# EAGLE library part PS4JOYSTICK (library PS4-sequencer)
Thumb Joystick Joystick commonly found in PS2 controllers. Two pots and a select switch. Adapted from Sparkfun Library (but for more common 6mm switch sticks)
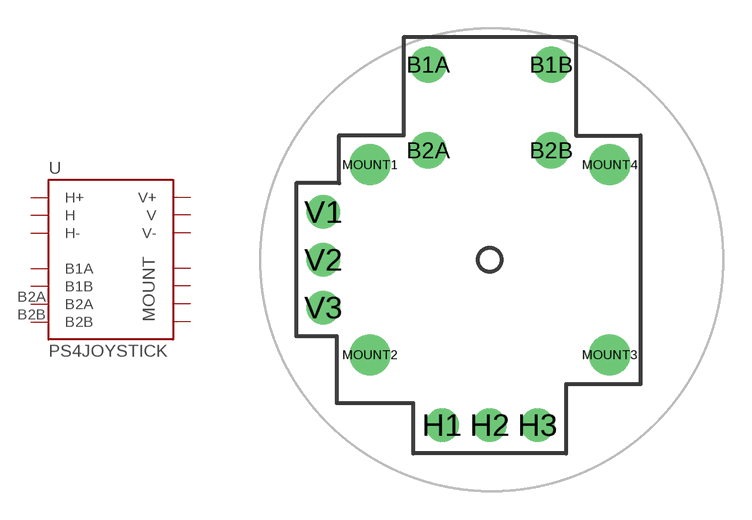
[diagram p1: symbol with the pads of PS4JOYSTICK; footprint PS4JOYSTICK]

Designator prefix U

## PS4JOYSTICKPTH  [PS4JOYSTICK]
B1A  B1A
B1B  B1B
B2A  B2A
B2B  B2B
H1  H+
H2  H
H3  H-
MOUNT1  GND
MOUNT2  GND
MOUNT3  GND
MOUNT4  GND
V1  V+
V2  V
V3  V-

## Footprint PS4JOYSTICK (pad centres in mm)
drill 1.1 pad 1.93: B1A -3.269,10.362; B1B 3.269,10.362; B2A -3.269,5.81; B2B 3.269,5.81
drill 0.889 pad 1.778: H1 -2.54,-8.781; H2 0,-8.781; H3 2.54,-8.781; V1 -8.838,2.54; V2 -8.838,0; V3 -8.838,-2.54
drill 1.397 pad 2.184: MOUNT1 -6.367,5.049; MOUNT2 -6.367,-5.049; MOUNT3 6.367,-5.049; MOUNT4 6.367,5.049